# EAGLE library part PWR_MUX_TPS2121RUXR (library !GPLIB_ACTIVE)
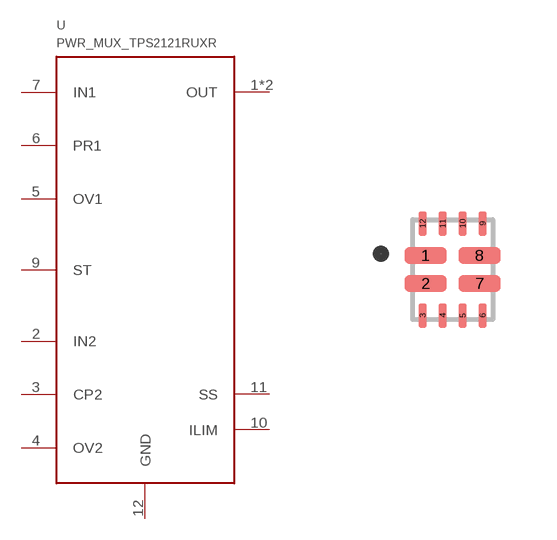
[diagram p123: symbol with the pads of IC_TPS2121RUXR; footprint IC_TPS2121RUXR]

Designator prefix U

## PWR_MUX_TPS2121RUXR  [IC_TPS2121RUXR]
1  OUT  out
2  IN2  in
3  CP2  in
4  OV2  in
5  OV1  in
6  PR1  in
7  IN1  in
8  OUT  out
9  ST  out
10  ILIM  pas
11  SS  pas
12  GND  pwr

## Footprint IC_TPS2121RUXR (pad centres in mm)
smd 1.05 x 0.4: 1 -0.675,0.35; 2 -0.675,-0.35; 7 0.675,-0.35; 8 0.675,0.35
smd 0.2 x 0.6: 3 -0.75,-1.15; 4 -0.25,-1.15; 5 0.25,-1.15; 6 0.75,-1.15; 9 0.75,1.15; 10 0.25,1.15; 11 -0.25,1.15; 12 -0.75,1.15